# Altium footprint library Standard Footprints.PcbLib: 40 footprints (part 3 of 3)
Each footprint in its own frame and in the unit in brackets; x right, y up, seen from the top. Pads: shape width x height; smd on the part's side, far side on the other; paste and mask are expansions set on the pad; w line width, h text height; cw(c..) or ccw(c..) is an arc to the next point about the centre after c.
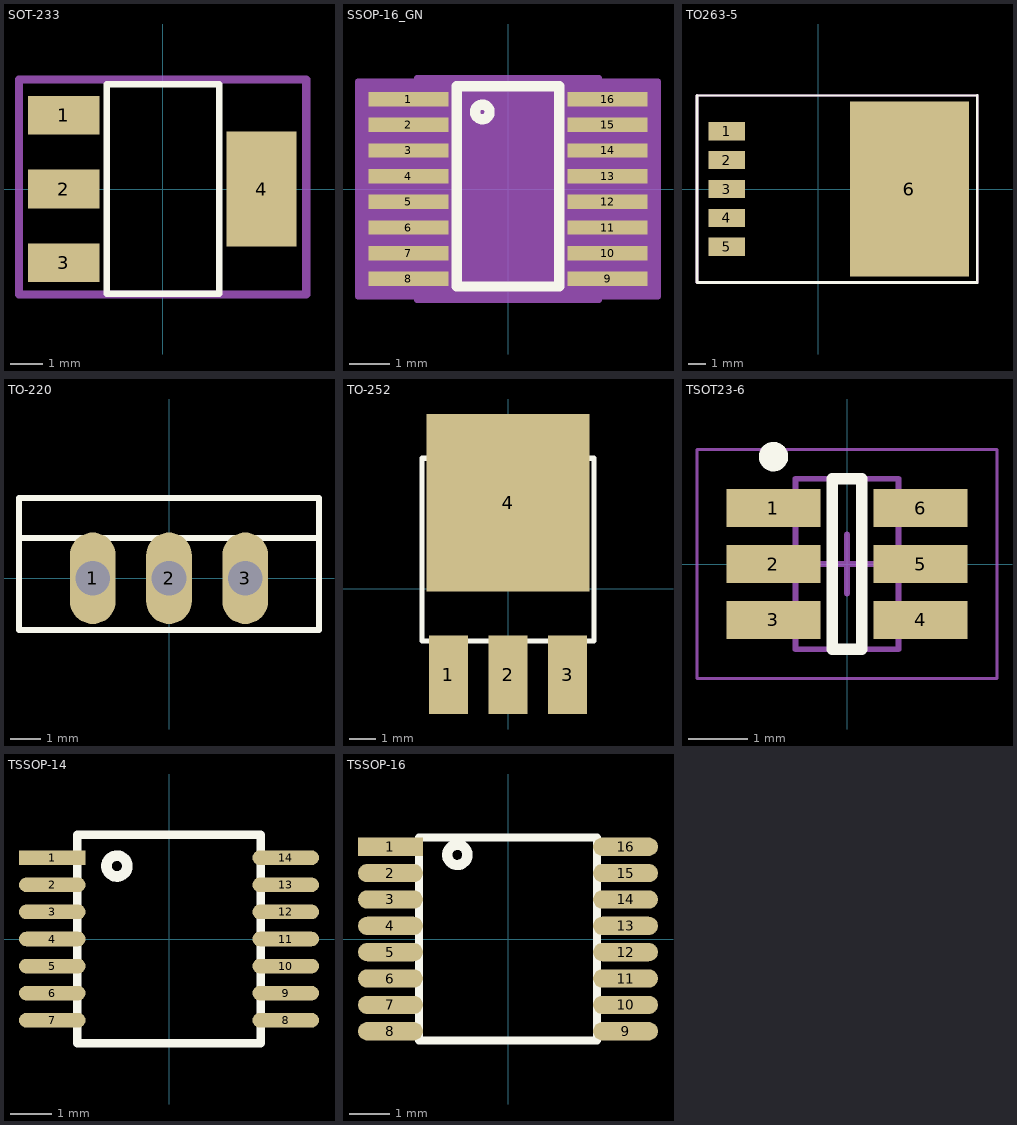
[diagram p2: the footprints below, top view; thin cyan lines are the x and y axes]

## SOT-233 [mil] "SOT223"
pads (4):
  rect 88x48 smd: 1(-122,91) 2(-122,0) 3(-122,-91)
  rect 86.61x141.73 smd: 4(122.01,0)
Top Overlay:
  lines w8: -68.9,-129 -68.9,129 70,129 70,-129 -68.9,-129
Mechanical 5:
  lines w10: -177.17,-130 177.17,-130 177.17,135 -177.17,135 -177.17,-130
  text "'.Designator'" at -29.53,0 h20
3D body "SOT-223-3.step": height 66.64, standoff 0.5, extent -137.01,-127.95 137.01,127.96
3D body: height 100, standoff -100, extent 19.68,59.05 19.68,59.05

## SSOP-16_GN [mil]
pads (16):
  rect 78x14 smd: 1(-97,87.5) 2(-97,62.5) 3(-97,37.5) 4(-97,12.5) 5(-97,-12.5) 6(-97,-37.5) 7(-97,-62.5) 8(-97,-87.5) 9(97,-87.5) 10(97,-62.5) 11(97,-37.5) 12(97,-12.5) 13(97,12.5) 14(97,37.5) 15(97,62.5) 16(97,87.5)
Top Overlay:
  circle w10: c-25,75 r7.07
  lines w10: -50,-95 -50,100 50,100 50,-95 -50,-95
Mechanical 13:
  lines w0: -12,98 ccw(c0,98) 12,98
  lines w1: -122,-93.5 -122,-81.5 -78.5,-81.5 -78.5,-93.5 -122,-93.5 ; -122,-68.5 -122,-56.5 -78.5,-56.5 -78.5,-68.5 -122,-68.5 ; -122,-43.5 -122,-31.5 -78.5,-31.5 -78.5,-43.5 -122,-43.5 ; -122,-18.5 -122,-6.5 -78.5,-6.5 -78.5,-18.5 -122,-18.5 ; -122,6.5 -122,18.5 -78.5,18.5 -78.5,6.5 -122,6.5 ; -122,31.5 -122,43.5 -78.5,43.5 -78.5,31.5 -122,31.5 ; -122,56.5 -122,68.5 -78.5,68.5 -78.5,56.5 -122,56.5 ; -122,81.5 -122,93.5 -78.5,93.5 -78.5,81.5 -122,81.5 ; -78.5,-98 78.5,-98 78.5,98 -78.5,98 -78.5,-98 ; 78.5,-93.5 78.5,-81.5 122,-81.5 122,-93.5 78.5,-93.5 ; 78.5,-68.5 78.5,-56.5 122,-56.5 122,-68.5 78.5,-68.5 ; 78.5,-43.5 78.5,-31.5 122,-31.5 122,-43.5 78.5,-43.5 ; 78.5,-18.5 78.5,-6.5 122,-6.5 122,-18.5 78.5,-18.5 ; 78.5,6.5 78.5,18.5 122,18.5 122,6.5 78.5,6.5 ; 78.5,31.5 78.5,43.5 122,43.5 122,31.5 78.5,31.5 ; 78.5,56.5 78.5,68.5 122,68.5 122,56.5 78.5,56.5 ; 78.5,81.5 78.5,93.5 122,93.5 122,81.5 78.5,81.5
Mechanical 15:
  region: -88.5,-104.5 -146,-104.5 -146,104.5 -88.5,104.5 -88.5,108 88.5,108 88.5,104.5 146,104.5 146,-104.5 88.5,-104.5 88.5,-108 -88.5,-108
  lines w6: -146,-104.5 -146,104.5 -88.5,104.5 -88.5,108 88.5,108 88.5,104.5 146,104.5 146,-104.5 88.5,-104.5 88.5,-108 -88.5,-108 -88.5,-104.5 -146,-104.5

## TO263-5 [mm]
pads (6):
  rect 2.16x1.07 smd: 1(-5.375,3.4) 2(-5.375,1.7) 3(-5.375,0) 4(-5.375,-1.7) 5(-5.375,-3.4)
  rect 6.99x10.3 smd: 6(5.375,0)
Top Overlay:
  lines w0.127: -7.125,5.504 9.375,5.504
  lines w0.152: -7.125,5.504 -7.125,-5.5 9.375,-5.5 9.375,5.504
Mechanical 5:
  lines w0.127: -7.125,5.504 9.375,5.504
  lines w0.152: -7.125,5.504 -7.125,-5.5 9.375,-5.5 9.375,5.504
3D body: height 2.54, standoff -2.54, extent 10.375,-5 10.375,-5
3D body "TO263-5-1.stp": height 4.22, standoff 0, extent -5.936,-4.911 8.666,4.911
3D body: height 2.54, standoff -2.54, extent -0.625,4 -0.625,4
3D body: height 2.54, standoff -2.54, extent -2.125,0 -2.125,0

## TO-220 [mil]
pads (3):
  oval 60x120 hole 45.28: 1(-100,0) 2(0,0) 3(100,0)
Top Overlay:
  lines w7.87: -196.85,53.15 196.85,53.15 ; -196.85,-67.91 -196.85,105.31 196.85,105.31 196.85,-67.91 -196.85,-67.91
3D body "to220.STEP": height 717.82, standoff -369.82, extent -199.99,-108.06 200.01,106.31

## TO-252 [mm]
pads (4):
  rect 1.5x3 smd: 1(-2.286,-3.3) 2(0,-3.3) 3(2.286,-3.3)
  rect 6.25x6.8 smd: 4(0,3.3)
Top Overlay:
  lines w0.2: -3.302,-2 -3.302,5 3.302,5 3.302,-2 -3.302,-2

## TSOT23-6 [mm]
pads (6):
  rect 1.6x0.65 smd: 1(-1.25,0.95) 2(-1.25,0) 3(-1.25,-0.95) 4(1.25,-0.95) 5(1.25,0) 6(1.25,0.95)
Top Overlay:
  circle w0.25: c-1.25,1.825 r0.125
  lines w0.2: -0.25,-1.45 -0.25,1.45 0.25,1.45 0.25,-1.45 -0.25,-1.45
Mechanical 13:
  lines w0.1: -0.875,-1.45 -0.875,1.45 0.875,1.45 0.875,-1.45 -0.875,-1.45
Mechanical 15:
  lines w0.05: -2.55,-1.95 -2.55,1.95 2.55,1.95 2.55,-1.95 -2.55,-1.95
  lines w0.1: -0.5,0 0.5,0 ; 0,-0.5 0,0.5
3D body: height 1, standoff 0.01, extent -0.875,-1.45 0.875,1.45

## TSSOP-14 [mm]
pads (14):
  rect 1.6x0.35 smd: 1(-2.8,1.95)
  oval 1.6x0.35 smd: 2(-2.8,1.3) 3(-2.8,0.65) 4(-2.8,0) 5(-2.8,-0.65) 6(-2.8,-1.3) 7(-2.8,-1.95) 8(2.8,-1.95) 9(2.8,-1.3) 10(2.8,-0.65) 11(2.8,0) 12(2.8,0.65) 13(2.8,1.3) 14(2.8,1.95)
Top Overlay:
  circle w0.254: c-1.25,1.75 r0.25
  lines w0.2: -2.2,-2.5 -2.2,2.5 2.2,2.5 2.2,-2.5 -2.2,-2.5

## TSSOP-16 [mm]
pads (16):
  rect 1.6x0.45 smd: 1(-2.9,2.275)
  oval 1.6x0.45 smd: 2(-2.9,1.625) 3(-2.9,0.975) 4(-2.9,0.325) 5(-2.9,-0.325) 6(-2.9,-0.975) 7(-2.9,-1.625) 8(-2.9,-2.275) 9(2.9,-2.275) 10(2.9,-1.625) 11(2.9,-0.975) 12(2.9,-0.325) 13(2.9,0.325) 14(2.9,0.975) 15(2.9,1.625) 16(2.9,2.275)
Top Overlay:
  circle w0.254: c-1.25,2.075 r0.25
  lines w0.2: -2.2,-2.5 2.2,-2.5 2.2,2.5 -2.2,2.5 -2.2,-2.5
3D body "tssop_16.step": height 1.22, standoff 0, extent -3.188,-2.502 3.214,2.498